# Altium schematic symbol library LL4148.SchLib: 1 symbol
Pins are listed as number, name and electrical type; pins without a type are passive.

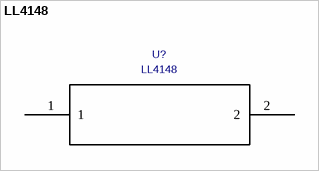
[diagram p0: symbol LL4148]

## LL4148
designator U?
C: Copyright (C) 2015 Accelerated Designs. All rights reserved; Vendor: Fairchild Semiconductor; Built_By: EMA_UL_Team; Value: LL4148; Manufacturer_Part_Number: LL4148
footprint SOD-80
pins: 1, 2